# Altium footprint library CLAP.PcbLib: 265 footprints (part 12 of 17)
Each footprint in its own frame and in the unit in brackets; x right, y up, seen from the top. Pads: shape width x height; smd on the part's side, far side on the other; paste and mask are expansions set on the pad; w line width, h text height; cw(c..) or ccw(c..) is an arc to the next point about the centre after c.
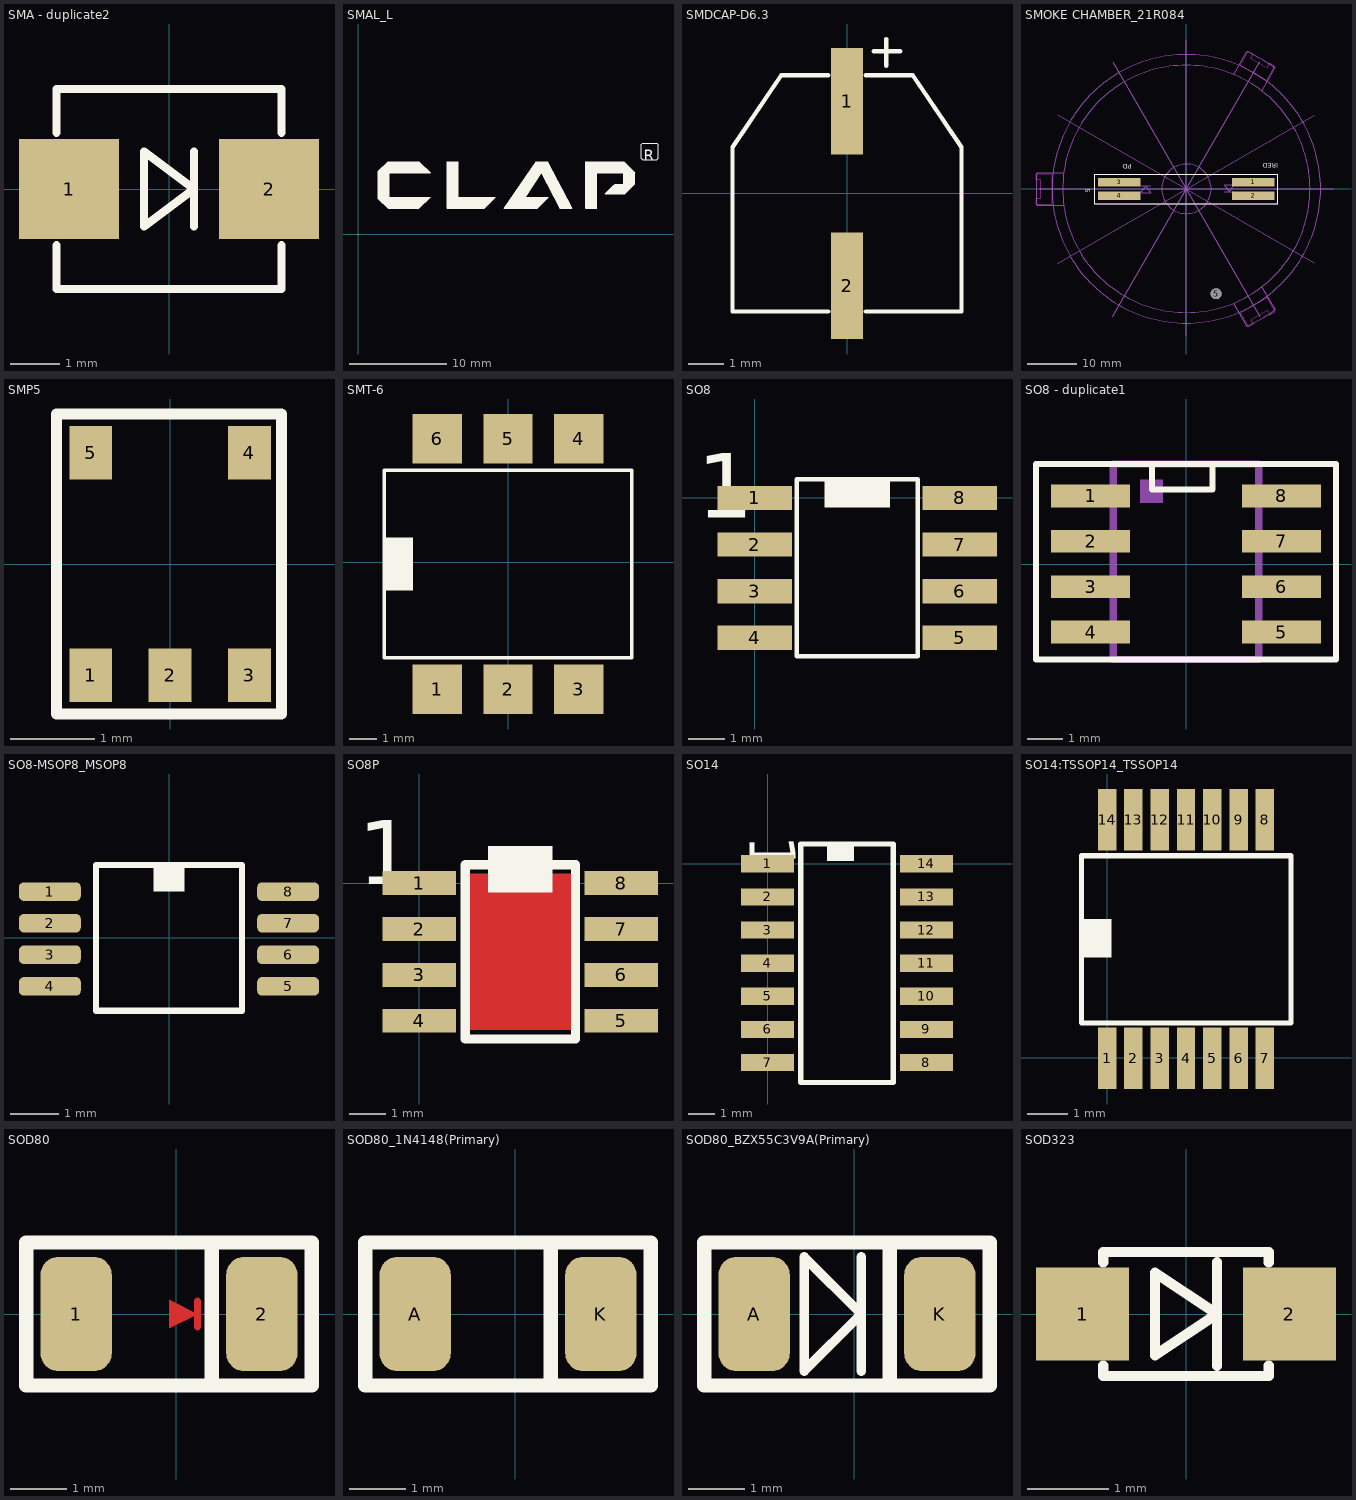
[diagram p11: the footprints below, top view; thin cyan lines are the x and y axes]

## SMA - duplicate2 [mil]
pads (2):
  rect 80x80 smd: 1(-80,0) 2(80,0)
Top Overlay:
  lines w6.69: -90,-45 -90,-80 90,-80 90,-45 ; -90,45 -90,80 90,80 90,45 ; 20,-30 20,30 ; -20,-30 -20,30 20,0 -20,-30
Mechanical 1:
  lines w3.94: -90,-45 -90,-80 90,-80 90,-45 ; -90,45 -90,80 90,80 90,45 ; 20,-30 20,30 ; -20,-30 -20,30 20,0 -20,-30
3D body "D_SMA.step": height 87.4, standoff 0, extent -98.43,-53.15 98.42,53.15

## SMAL_L [mm]
pads (1):
  rect 0.1x0.1 smd: 1(0,0)
Top Overlay:
  region: 2.032,6.477 2.032,3.683 3.048,2.667 6.223,2.667 7.366,3.81 3.175,3.81 3.175,6.35 7.366,6.35 6.223,7.493 3.048,7.493
  region: 9.144,2.667 12.954,2.667 14.097,3.81 10.287,3.81 10.287,7.493 9.144,7.493
  region: 23.368,2.667 24.511,2.667 24.511,6.35 27.305,6.35 27.301,5.171 26.356,5.171 25.348,4.163 27.427,4.163 28.448,5.207 28.448,6.35 27.305,7.493 23.368,7.493
  region: 14.986,2.667 18.415,2.667 19.558,3.81 17.145,3.81 18.796,6.35 20.701,2.667 21.971,2.667 19.431,7.493 18.288,7.493
  lines w0.025: 25.399,4.19 27.431,4.19 ; 25.474,4.226 26.289,5.08 ; 26.353,5.081 27.242,5.081 ; 27.301,5.108 27.305,6.35 24.511,6.35 24.511,2.667 23.368,2.667 23.368,7.493 27.305,7.493 28.448,6.35 28.448,5.207 27.427,4.163 ; 2.032,3.683 3.048,2.667 6.223,2.667 7.366,3.81 3.175,3.81 3.175,6.35 4.191,6.35 7.366,6.35 6.223,7.493 3.048,7.493 2.032,6.477 2.032,5.969 2.032,3.683 ; 9.144,2.667 9.144,7.493 10.287,7.493 10.287,3.81 14.097,3.81 12.954,2.667 9.144,2.667 ; 14.986,2.667 16.256,2.667 18.415,2.667 19.558,3.81 17.145,3.81 18.796,6.35 20.701,2.667 21.971,2.667 19.431,7.493 18.288,7.493 14.986,2.667 ; 29.128,7.817 29.254,7.691 30.703,7.691 30.829,7.817 30.829,9.266 30.703,9.392 29.317,9.392 29.254,9.392 29.128,9.266 29.128,7.817
  text "R" at 29.38,7.565 h1.12

## SMDCAP-D6.3 [mil]
pads (2):
  rect 36x120 smd: 1(0,104) 2(0,-104)
Top Overlay:
  lines w5: -21,-133 -129,-133 -129,52 -74,133 -21,133 ; 21,-133 129,-133 129,52 74,133 21,133 ; 30,160 60,160 ; 44,144 44,174
3D body "CP_Elec_6.3x7.7.step": height 303.15, standoff 0, extent -129.92,-153.55 129.92,153.54

## SMOKE CHAMBER_21R084 [mm]
height 17.5
pads (5):
  rect 8.6x1.7 smd: 1(13.55,1.37) 2(13.55,-1.37) 3(-13.55,1.37) 4(-13.55,-1.37)
  round 2.2 hole 2.2 unplated: 5(6,-21.2)
Top Overlay:
  lines w0.17: -18.5,-3 -18.5,3 18.5,3 18.5,-3 -18.5,-3
  text "5" at -19.451,-0.778 h0.94
  text "IRED" at 18.56,5.199 h0.94
  text "PD" at -11.06,4.999 h0.94
Keep-Out Layer:
  lines w0.2: -30.4,-3.1 -30.4,-1.9 -29.4,-1.9 -29.4,1.9 -30.4,1.9 -30.4,3.1 -27.1,3.1 -27.1,-3.1 -30.4,-3.1 ; 10.865,-25.05 12.515,-27.908 13.555,-27.308 13.055,-26.442 16.346,-24.542 16.845,-25.408 17.885,-24.808 16.235,-21.95 10.865,-25.05 ; 10.865,25 12.515,27.858 13.555,27.258 13.055,26.392 16.345,24.492 16.845,25.358 17.885,24.758 16.235,21.9 10.865,25
Mechanical 1:
  circle w0.1: c0,0 r5
  circle w0.1: c0,0 r25
  circle w0.1: c0,0 r25
  circle w0.1: c0,0 r27.15
  lines w0.1: -30.22,-3.329 -24.8,-3.3 ; -30.216,-3.35 cw(c-0.245,-0.041) -30.216,3.268 ; -30.212,3.258 -24.8,3.3 ; -29.7,0 29.7,0 ; -25.981,-15 25.808,14.9 ; -25.981,15 25.808,-14.9 ; -14.85,-25.721 14.85,25.721 ; -14.85,25.721 14.85,-25.721 ; -9.25,0.672 -7.25,0.672 ; 0,-29.8 0,30 ; 7.7,-0.622 9.7,-0.622 ; 9.542,-23.209 12.221,-27.747 ; 9.6,23.1 12.19,27.689 ; 12.165,-27.769 ccw(c0.045,-0.159) 17.896,-24.46 ; 12.22,27.71 cw(c0.1,0.1) 17.951,24.401 ; 15.25,-19.923 17.929,-24.461 ; 15.3,19.8 17.89,24.389 ; 18.45,3 -18.5,3 -18.5,-3 18.5,-3 18.5,3 ; -9.25,-0.828 -8.25,0.672 -7.25,-0.828 -9.25,-0.828 ; 7.7,0.878 9.7,0.878 8.7,-0.622 7.7,0.878
  text "PD" at -14.84,3.351 h0.94
  text "5" at -12.251,-0.578 h0.94
  text "IRED" at 11.19,-0.899 h0.94
3D body: height 16.7, standoff 0, extent -24,-23.993 24,23.993
3D body: height 16.7, standoff 0, extent 9.14,19.006 16.9,26.032
3D body: height 16.7, standoff 0, extent 8.7,-24.996 16.305,-18.45
3D body: height 16.7, standoff 0, extent -26.947,-3.3 -21.9,3.3

## SMP5 [mil]
pads (5):
  rect 20x25 smd: 1(-37,-52) 2(0,-52) 3(37,-52) 4(37,52) 5(-37,52)
Top Overlay:
  lines w5: -53,-70 -53,70 ; -52,-70 52,-70 52,70 -52,70
3D body "SOT-23-5.step": height 61.02, standoff 0, extent -57.09,-55.11 57.09,55.12

## SMT-6 [mil]
pads (6):
  rect 70x70 smd: 1(-100,-180) 2(0,-180) 3(100,-180) 4(100,175) 5(0,175) 6(-100,175)
Top Overlay:
  region: -175,-40 -135,-40 -135,35 -175,35
  lines w5: -175,-135 175,-135 175,130 -175,130 -175,-135

## SO8 [mil]
pads (8):
  rect 80x26 smd: 1(0,0) 2(0,-50) 3(0,-100) 4(0,-150) 5(220,-150) 6(220,-100) 7(220,-50) 8(220,0)
Top Overlay:
  region: 75,20 75,-10 145,-10 145,20
  lines w5: 45,-170 45,20 175,20 175,-170 45,-170
  text "1" at -61.86,-21.21 h69.44
3D body "SOIC-8_3.9x4.9mm_P1.27mm.step": height 68.9, standoff 0, extent -7.87,-171.26 228.34,21.66

## SO8 - duplicate1 [mm]
height 0.044
pads (8):
  rect 2.2x0.64 smd: 1(-2.667,1.905) 2(-2.667,0.635) 3(-2.667,-0.635) 4(-2.667,-1.905) 5(2.667,-1.905) 6(2.667,-0.635) 7(2.667,0.635) 8(2.667,1.905)
Top Overlay:
  lines w0.17: -0.954,2.778 -0.954,2.078 0.746,2.078 0.746,2.778 ; -4.191,-2.667 -4.191,2.794 4.191,2.794 4.191,-2.667 -4.191,-2.667
Mechanical 1:
  region: -1.28,1.713 -0.645,1.713 -0.645,2.348 -1.28,2.348
  lines w0.2: -2.032,-2.667 -2.032,2.794 2.032,2.794 2.032,-2.667 -2.032,-2.667
3D body "SOIC-8_3.9x4.9mm_P1.27mm.step": height 1.75, standoff 0, extent -3,-2.45 3,2.45

## SO8-MSOP8_MSOP8 [mm]
pads (8):
  rrect50% 1.27x0.381 smd: 1(-2.45,0.95) 2(-2.45,0.3) 3(-2.45,-0.35) 4(-2.45,-1) 5(2.45,-1) 6(2.45,-0.35) 7(2.45,0.3) 8(2.45,0.95)
Top Overlay:
  region: -0.318,1.511 -0.318,0.953 0.318,0.953 0.318,1.511
  lines w0.127: -0.254,1.029 -0.254,1.499 ; 0.254,1.016 0.254,1.499 ; 1.499,1.499 -1.5,1.5 -1.5,-1.5 1.5,-1.5 1.5,1.5
3D body "MSOP-8_3x3mm_P0.65mm.step": height 0.95, standoff 0, extent -2.45,-1.5 2.45,1.5

## SO8P [mil]
pads (8):
  rect 80x26 smd: 1(0,0) 2(0,-50) 3(0,-100) 4(0,-150) 5(220,-150) 6(220,-100) 7(220,-50) 8(220,0)
Top Layer:
  region: 165,10 55,10 55,-160 165,-160
Top Overlay:
  region: 75,40 75,-10 145,-10 145,40
  lines w10: 50,-170 50,20 170,20 170,-170 50,-170
  text "1" at -66.86,-1.21 h69.44
Top Solder:
  region: 165,10 55,10 55,-160 165,-160
3D body "SOIC-8-1EP_3.9x4.9mm_P1.27mm_EP2.35x2.35mm.step": height 68.9, standoff 0, extent -7.87,-171.25 228.35,21.66

## SO14 [mil]
height 1.8
pads (14):
  rect 80x26 smd: 1(0,0) 2(0,-50) 3(0,-100) 4(0,-150) 5(0,-200) 6(0,-250) 7(0,-300) 8(240,-300) 9(240,-250) 10(240,-200) 11(240,-150) 12(240,-100) 13(240,-50) 14(240,0)
Top Overlay:
  region: 90,30 90,5 130,5 130,30
  lines w7.87: 50,-330 190,-330 190,30 50,30 50,-330
  text "1" at -27.14,43.57 h69.44
3D body "SOIC-14_3.9x8.7mm_P1.27mm.step": height 68.9, standoff 0, extent 0,-321.26 236.22,21.26

## SO14:TSSOP14_TSSOP14 [mil]
pads (14):
  rect 18x60 smd: 1(0,-0.28) 2(25.59,-0.28) 3(51.18,-0.28) 4(76.77,-0.28) 5(102.36,-0.28) 6(127.95,-0.28) 7(153.54,-0.28) 8(153.54,232) 9(127.95,232) 10(102.36,232) 11(76.77,232) 12(51.18,232) 13(25.59,232) 14(0,232)
Top Overlay:
  region: -23,98 4,98 4,135 -23,135
  lines w5: -25,34 179,34 179,197 -25,197 -25,35
3D body "TSSOP-14_4.4x5mm_P0.65mm.step": height 39.37, standoff 0, extent -21.66,-9.84 175.19,242.13

## SOD80 [mil]
pads (2):
  rrect50% 50x80 smd: 1(-70,0) 2(60,0)
Top Layer:
  region: 15,0 -5,-10 -5,10
  lines w5: 15,-9 15,9
Top Overlay:
  lines w10: 25,-50 25,50 ; -105,-50 95,-50 95,50 -105,50 -105,-50
3D body "D_MiniMELF.step": height 54.9, standoff 0, extent -70.87,-27.51 70.86,27.5

## SOD80_1N4148(Primary) [mil]
pads (2):
  rrect50% 50x80 smd: A(-70,0) K(60,0)
Top Overlay:
  lines w10: 25,-50 25,50 ; -105,-50 95,-50 95,50 -105,50 -105,-50
3D body "D_MiniMELF.step": height 54.9, standoff 0, extent -70.87,-27.51 70.86,27.5

## SOD80_BZX55C3V9A(Primary) [mil]
pads (2):
  rrect50% 50x80 smd: A(-70,0) K(60,0)
Top Overlay:
  lines w6.69: 5,-40 5,40 ; -35,-40 5,0 -35,40 -35,-40
  lines w10: 25,-50 25,50 ; -105,-50 95,-50 95,50 -105,50 -105,-50
3D body "D_MiniMELF.step": height 54.9, standoff 0, extent -70.87,-27.51 70.86,27.5

## SOD323 [mil]
pads (2):
  rect 45x45 smd: 1(-50,0) 2(50,0)
Top Overlay:
  lines w5: -40,-25 -40,-30 40,-30 40,-25 ; -40,25 -40,30 40,30 40,25 ; 15,-25 15,25 ; -15,-20 -15,20 15,0 -15,-20
3D body "D_SOD-323.step": height 43.31, standoff 0, extent -49.22,-24.61 49.21,24.6